# EAGLE library part MCP2515 (library automaton)
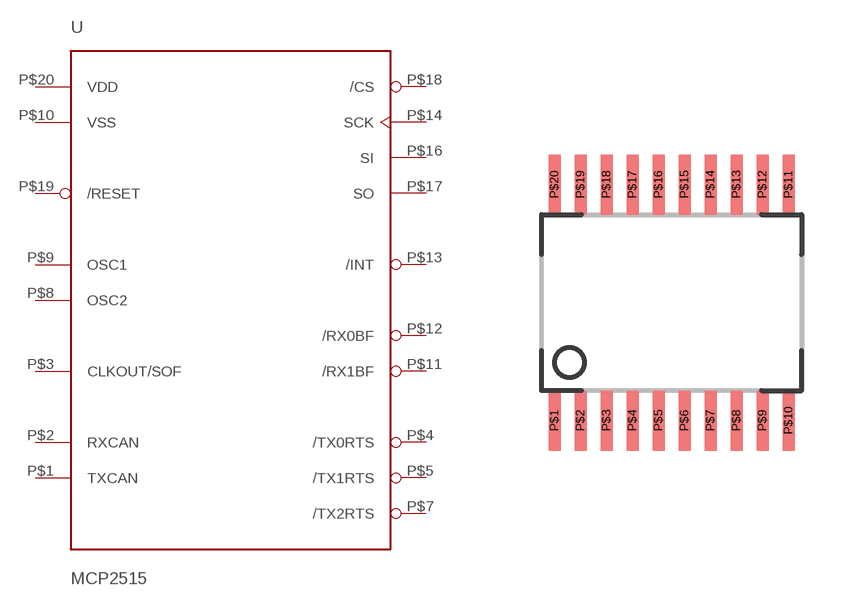
[diagram p4: symbol with the pads of MICROCHIP_TSSOP20; footprint MICROCHIP_TSSOP20]

Designator prefix -

## MCP2515TSSOP  [MICROCHIP_TSSOP20]
P$1  TXCAN  out
P$2  RXCAN  in
P$3  CLKOUT/SOF
P$4  /TX0RTS
P$5  /TX1RTS
P$7  /TX2RTS
P$8  OSC2
P$9  OSC1
P$10  VSS  pwr
P$11  /RX1BF
P$12  /RX0BF
P$13  /INT
P$14  SCK  in
P$16  SI  in
P$17  SO  out
P$18  /CS  in
P$19  /RESET
P$20  VDD  pwr

## Footprint MICROCHIP_TSSOP20 (pad centres in mm)
smd 0.3 x 1.5: P$1 -2.925,-2.95; P$2 -2.275,-2.95; P$3 -1.625,-2.95; P$4 -0.975,-2.95; P$5 -0.325,-2.95; P$6 0.325,-2.95; P$7 0.975,-2.95; P$8 1.625,-2.95; P$9 2.275,-2.95; P$10 2.925,-2.95; P$11 2.925,2.95; P$12 2.275,2.95; P$13 1.625,2.95; P$14 0.975,2.95; P$15 0.325,2.95; P$16 -0.325,2.95; P$17 -0.975,2.95; P$18 -1.625,2.95; P$19 -2.275,2.95; P$20 -2.925,2.95